# Altium footprint library sustentationAvecPC.PcbLib: 16 footprints
Each footprint in its own frame and in the unit in brackets; x right, y up, seen from the top. Pads: shape width x height; smd on the part's side, far side on the other; paste and mask are expansions set on the pad; w line width, h text height; cw(c..) or ccw(c..) is an arc to the next point about the centre after c.
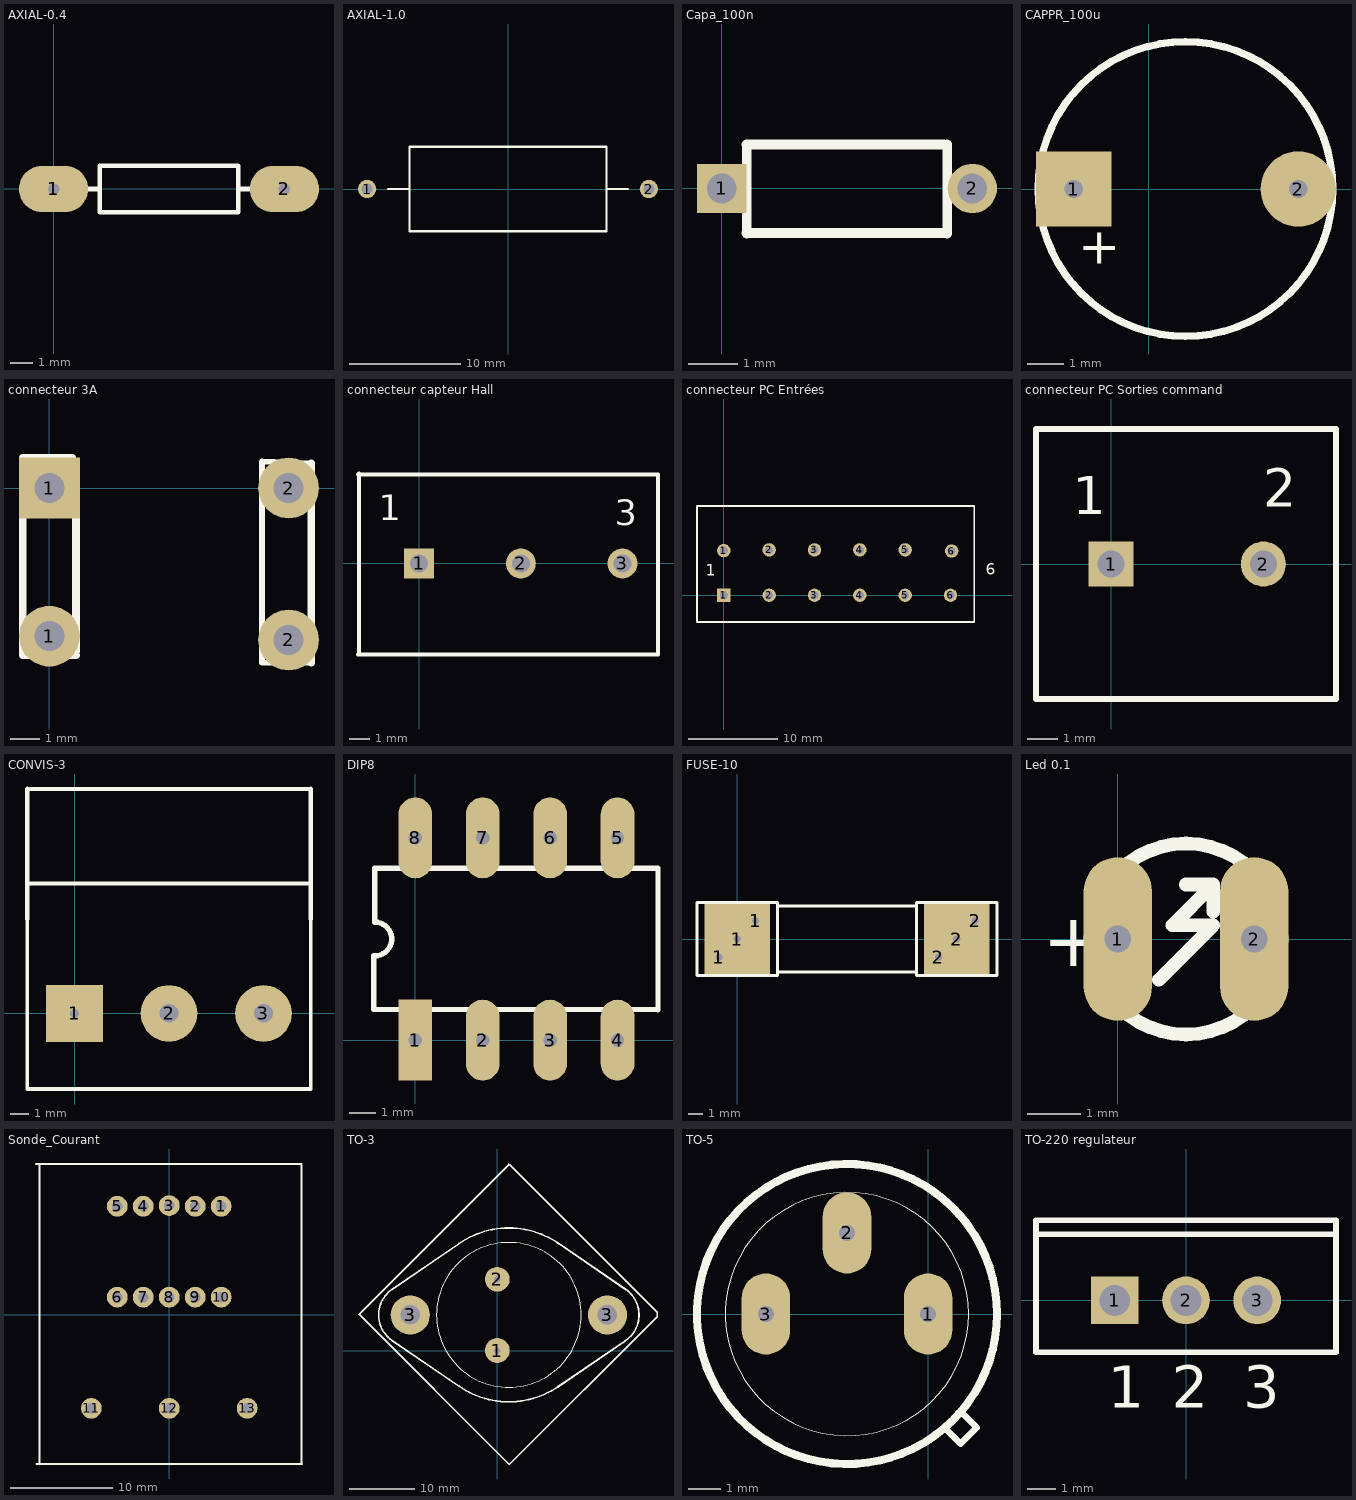
[diagram p0: the footprints below, top view; thin cyan lines are the x and y axes]

## AXIAL-0.4 [mil]
pads (2):
  oval 120x80 hole 19.68: 1(0,0) 2(400,0)
Top Overlay:
  lines w7.87: 40,0 80,0 ; 320,0 360,0 ; 80,-40 320,-40 320,40 80,40 80,-40

## AXIAL-1.0 [mm] "Adjustable Magnetic-Core Inductor; 2 Leads"
pads (2):
  round 1.65 hole 1: 1(-12.7,0) 2(12.7,0)
Top Overlay:
  lines w0.2: -10.795,0 -8.89,0 ; 8.89,0 10.795,0 ; -8.89,-3.81 8.89,-3.81 8.89,3.81 -8.89,3.81 -8.89,-3.81

## Capa_100n [mm] "Connector; Header; 2 Position"
pads (2):
  rect 1x1 hole 0.6: 1(0,0)
  round 1 hole 0.6: 2(5.08,0)
Top Overlay:
  lines w0.2: 0.5,-0.9 4.5,-0.9 ; 0.5,0.889 4.5,0.889 ; 0.508,-0.911 0.508,0.889 ; 4.572,-0.911 4.572,0.889

## CAPPR_100u [mil]
pads (2):
  rect 80.63x80.63 hole 19.68: 1(-80,0)
  round 80.63 hole 19.68: 2(160,0)
Top Overlay:
  circle w7.87: c39.37,0 r157.48
  text "+" at -75,-80 h39.37

## connecteur 3A [mil] "Connector; Header; 2 Position"
pads (4):
  round 80 hole 39.37: 1(0,-195) 2(314.96,-200) 2(314.96,0)
  rect 80x80 hole 39.37: 1(0,0)
Top Overlay:
  lines w7.87: -10,-27.56 -10,27.56 ; 345,32.56 280,35 280,-230 345.87,-230
  lines w10: 30,40 -35,40 -35,-220 35,-220 ; 35,-215 35,15 ; 345,-230 345,32.56

## connecteur capteur Hall [mm] "Connector; Header; 3x1 Position"
pads (3):
  rect 1.5x1.5 hole 0.9: 1(0,0)
  round 1.5 hole 0.9: 2(5.08,0) 3(10.16,0)
Top Overlay:
  lines w0.2: -3.062,-4.555 11.938,-4.555 11.938,4.445 -3.062,4.445 ; -3,-4.5 -3,4.5
  text "3" at 9.779,1.905 h1.27
  text "1" at -2.032,2.159 h1.27

## connecteur PC Entrées [mm] "Connector; Header; 6x2 Position"
pads (12):
  rect 1.5x1.5 hole 0.9: 1(0,0)
  round 1.5 hole 0.9: 1(0,5) 2(5.08,0) 2(5.08,5.08) 3(10.16,0) 3(10.16,5.08) 4(15.24,0) 4(15.24,5.08) 5(20.32,0) 5(20.32,5.08) 6(25.4,0) 6(25.527,4.953)
Top Overlay:
  lines w0.2: -3,-3 28.067,-3 28.067,10 -3,10 -3,-3
  text "1" at -2.032,2.159 h1.27
  text "6" at 29.337,2.286 h1.27

## connecteur PC Sorties command [mm] "Connector; Header; 2x1 Position"
pads (2):
  rect 1.5x1.5 hole 0.9: 1(0,0)
  round 1.5 hole 0.9: 2(5.08,0)
Top Overlay:
  lines w0.2: -2.5,-4.5 7.5,-4.5 7.5,4.5 -2.5,4.5 -2.5,-4.5
  text "1" at -1.27,1.651 h1.27
  text "2" at 5.08,1.905 h1.27

## CONVIS-3 [mil]
pads (3):
  rect 120x120 hole 19.68: 1(0,0)
  round 120 hole 39.37: 2(200,0) 3(400,0)
Top Overlay:
  lines w8: -100,200 -100,-160 500,-160 500,200 ; -100,275 500,275 ; -100,475 500,475
  lines w10: -100,200 -100,475 ; 500,200 500,475

## DIP8 [mil]
pads (8):
  rect 50x120 hole 19.68: 1(0,0)
  oval 50x120 hole 19.68: 2(100,0) 3(200,0) 4(300,0) 5(300,300) 6(200,300) 7(100,300) 8(0,300)
Top Overlay:
  lines w7.87: -61.53,125 -61.53,45.67 360,45 360,255 -60,255 -60,175 cw(c-60,150) -60,125

## FUSE-10 [mil]
pads (6):
  rect 80x90 hole 19.68: 1(-50,-50) 1(50,50) 2(550,-50) 2(650,50)
  rect 180x190 hole 19.68: 1(0,0) 2(600,0)
Mid-Layer 1:
  lines w50: -50,-50 50,50 ; 550,-50 650,50
Top Overlay:
  lines w7.87: 110,-90 490,-90 ; 110,90 490,90 ; -110,-100 -110,100 110,100 110,-100 -110,-100 ; 490,-100 710,-100 710,100 490,100 490,-100

## Led 0.1 [mil]
pads (2):
  oval 50x120 hole 19.68: 1(0,0) 2(100,0)
Top Overlay:
  circle w10: c50,0 r70
  lines w10: 30,-30 70,10 40,10 70,40 ; 50,40 70,40 ; 70,20 70,40
  text "+" at -55,-20 h39.37

## Sonde_Courant [mil] "Adjustable Magnetic-Core Inductor; 2 Leads"
pads (13):
  round 80 hole 39.37: 1(200,417.32) 2(100,417.32) 3(0,420) 4(-100,417.32) 5(-200,417.32) 6(-200,67.32) 7(-100,67.32) 8(0,67.32) 9(100,67.32) 10(200,67.32) 11(-300,-360.63) 12(0,-360.63) 13(300,-360.63)
Top Overlay:
  lines w7.87: -513.62,580 510,580 ; -511.81,-575 511.81,-575 ; -500,-569.61 -500,580 ; 510,-574.61 510,575

## TO-3 [mm]
pads (4):
  round 3.81 hole 1: 1(0,0) 2(0,10.922)
  round 6 hole 3: 3(-13.335,5.461) 3(16.891,5.461)
Mid-Layer 1:
  lines w1.27: -13.335,5.461 16.891,5.461
Top Overlay:
  circle w0.051: c-13.335,5.461 r2.032
  circle w0.051: c16.891,5.461 r2.032
  circle w0.051: c1.778,5.461 r11.1
  lines w0.254: -16.15,1.549 cw(c-13.411,5.461) -16.15,9.373 ; -5.871,-5.462 ccw(c1.778,5.461) 9.427,-5.462 ; -5.871,16.384 cw(c1.778,5.461) 9.427,16.384 ; 1.78,28.6 1.78,28.461 -21.22,5.461 -21.081,5.461 1.78,-17.4 1.919,-17.4 24.511,5.192 24.511,5.869 1.919,28.461 ; 19.706,1.549 ccw(c16.967,5.461) 19.706,9.373
  lines w0.305: -16.15,1.549 -5.871,-5.462 ; -16.15,9.373 -5.871,16.384 ; 9.271,-5.588 19.551,1.424 ; 9.271,16.51 19.706,9.373

## TO-5 [mil]
pads (3):
  oval 60x100 hole 19.68: 1(0,0) 2(-100,100) 3(-200,0)
Top Overlay:
  circle w1: c-100,0 r150
  circle w10: c-100,0 r185
  lines w8: 20,-140 40,-160 60,-140 40,-120

## TO-220 regulateur [mm] "TO, Thru-Hole, Vertical, Heatsink Mounted; 3 In-Line Leads; Pitch 2.54 mm"
height 22.9
pads (3):
  rect 1.7x1.7 hole 1.1: 1(-2.54,0)
  round 1.7 hole 1.1: 2(0,0) 3(2.54,0)
Top Overlay:
  lines w0.2: -5.35,2.35 5.35,2.35 ; -5.35,-1.85 5.35,-1.85 5.35,2.85 -5.35,2.85 -5.35,-1.85
  text "1" at -2.79,-3.825 h1.5
  text "2" at -0.5,-3.825 h1.5
  text "3" at 2.04,-3.825 h1.5